# Altium footprint library UDZVTE1722B.PcbLib: 1 footprints
Each footprint in its own frame and in the unit in brackets; x right, y up, seen from the top. Pads: shape width x height; smd on the part's side, far side on the other; paste and mask are expansions set on the pad; w line width, h text height; cw(c..) or ccw(c..) is an arc to the next point about the centre after c.
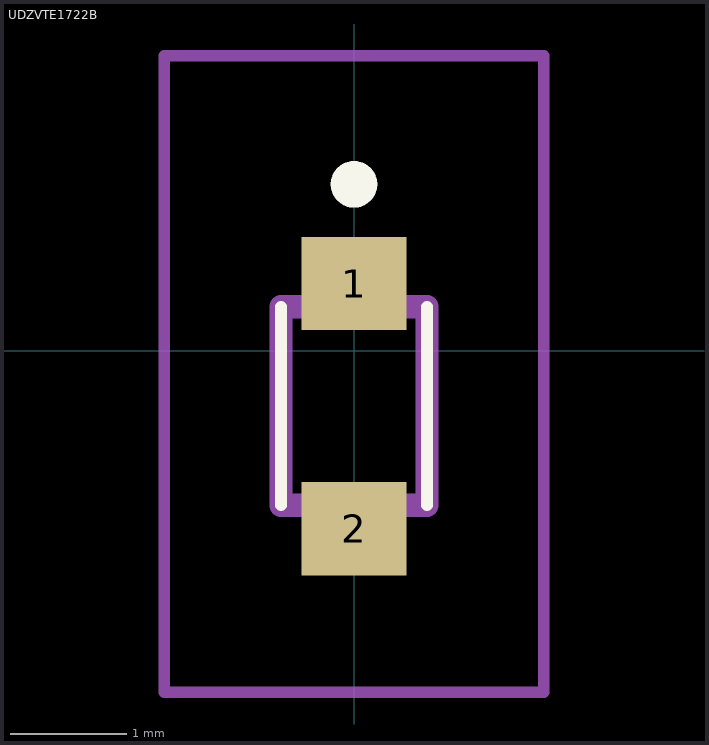
[diagram p0: the footprint, top view; thin cyan lines are the x and y axes]

## UDZVTE1722B [mm]
pads (2):
  rect 0.9x0.8 smd: 1(0,0.575) 2(0,-1.525)
Top Overlay:
  lines w0.1: -0.625,-1.325 -0.625,0.375 ; 0.625,-1.325 0.625,0.375
  lines w0.2: -0.1,1.425 -0.1,1.425 ; -0.1,1.425 cw(c0,1.425) 0.1,1.425 ; -0.1,1.425 ccw(c0,1.425) 0.1,1.425 ; 0.1,1.425 0.1,1.425
Mechanical 15:
  lines w0.2: -0.625,-1.325 0.625,-1.325 0.625,0.375 -0.625,0.375 -0.625,-1.325
Mechanical 20:
  lines w0.1: -1.625,-2.925 1.625,-2.925 1.625,2.525 -1.625,2.525 -1.625,-2.925
3D body "UDZVTE-174.7B.stp": height 5.8, standoff -4.65, extent -10,-3.376 10,3.376